# Altium footprint library OltestLib.PcbLib: 98 footprints (part 3 of 7)
Each footprint in its own frame and in the unit in brackets; x right, y up, seen from the top. Pads: shape width x height; smd on the part's side, far side on the other; paste and mask are expansions set on the pad; w line width, h text height; cw(c..) or ccw(c..) is an arc to the next point about the centre after c.
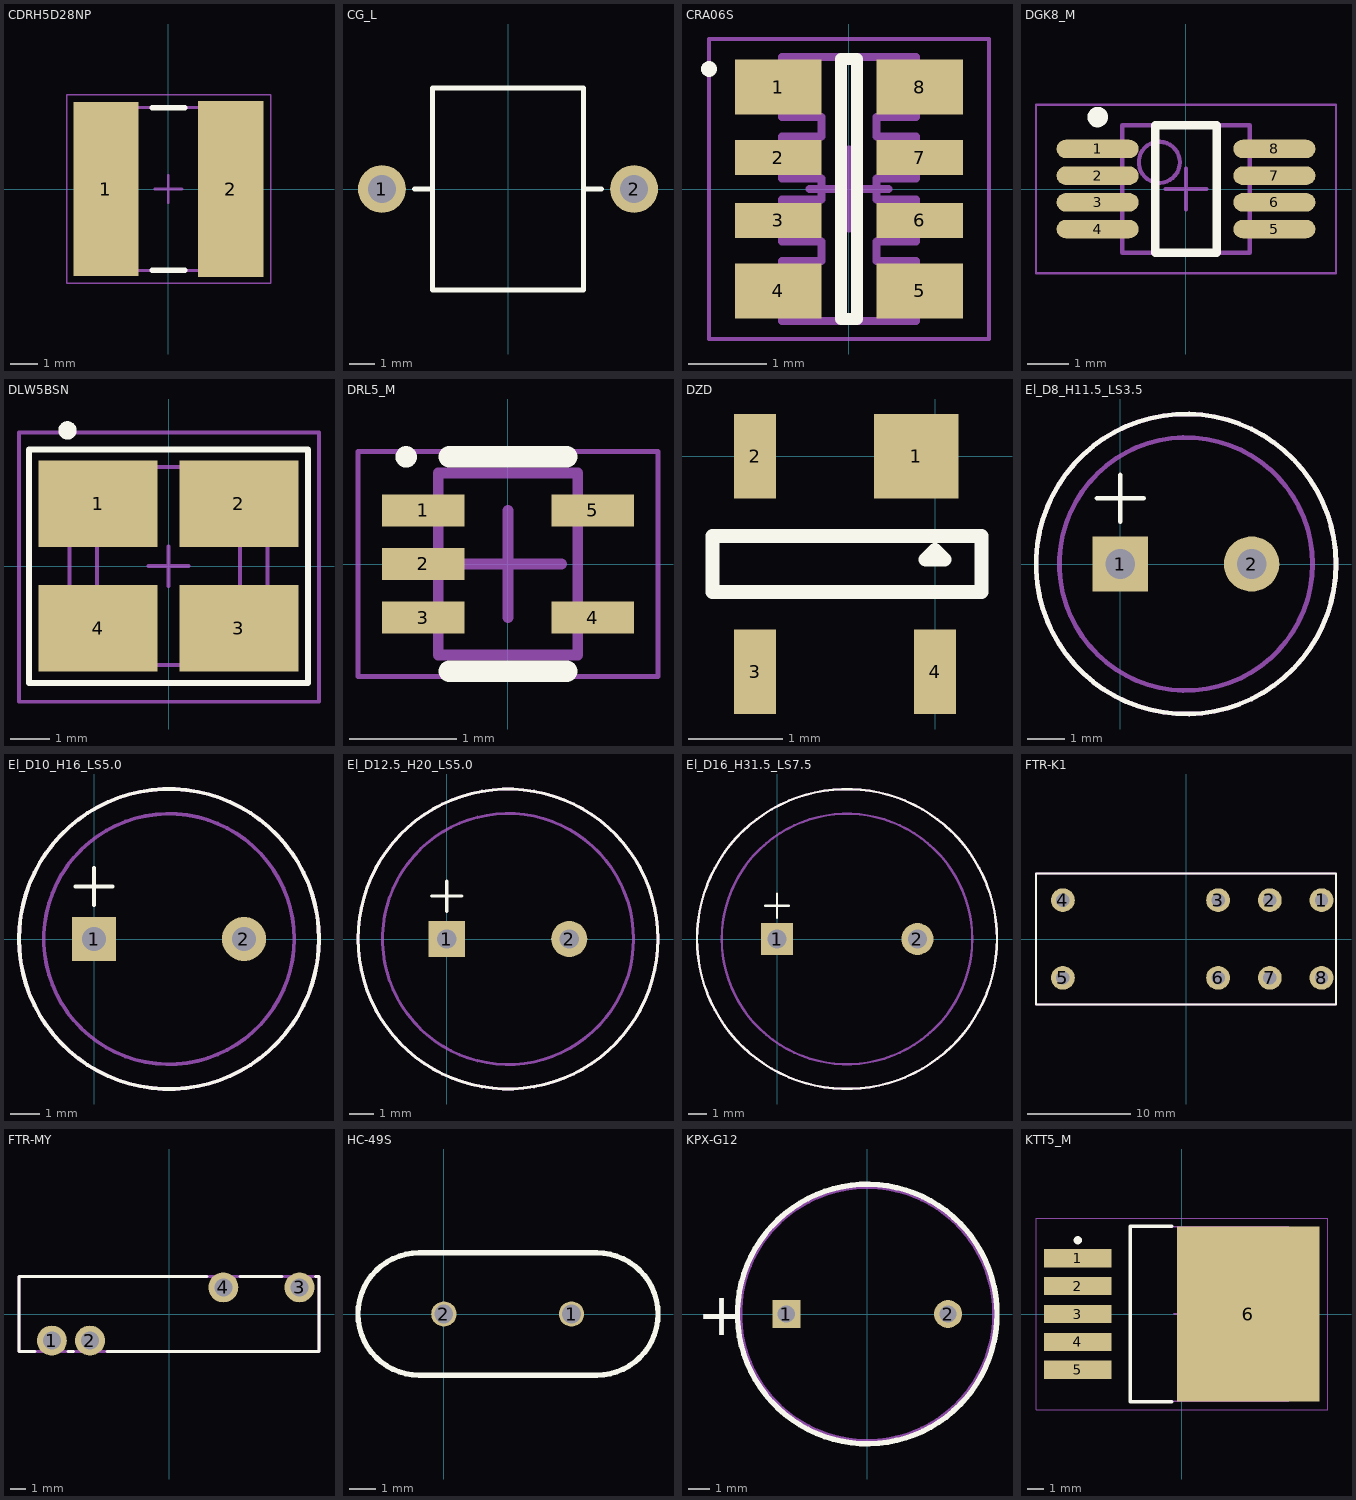
[diagram p2: the footprints below, top view; thin cyan lines are the x and y axes]

## CDRH5D28NP [mm] "Precision Wire Wound Inductor, 2-Leads, Body 5,75x5,75mm, IPC Low Density"
height 2.8
pads (2):
  rect 2.4x6.4 smd: 1(-2.3,0)
  rect 2.4x6.5 smd: 2(2.3,0)
Top Overlay:
  lines w0.2: -0.6,-3 0.6,-3 ; -0.6,3 0.6,3
Mechanical 13:
  lines w0.1: -3,-3 -3,3 3,3 3,-3 -3,-3
Mechanical 15:
  lines w0.05: -3.75,-3.475 -3.75,3.475 3.775,3.475 3.775,-3.475 -3.75,-3.475
  lines w0.1: -0.5,0 0.5,0 ; 0,-0.5 0,0.5
3D body "INDP5858X28M.step": height 2.9, standoff 0, extent -2.975,-3 2.975,3

## CG_L [mm]
height 10
pads (2):
  round 1.9 hole 1.1: 1(-5,0) 2(5,0)
Top Overlay:
  lines w0.203: -3.7,0 -3,0 ; 3,0 3.7,0 ; -3,-4 3,-4 3,4 -3,4 -3,-4
3D body "CG_L.stp": height 9.55, standoff -2.51, extent -5.4,-4.05 5.4,4.05

## CRA06S [mm] "Chip Array, ConvexS, 8-Leads, Pitch 0,80mm,  Body 3,20x1,50mm,  IPC Low Density"
height 0.6
pads (8):
  rect 1.1x0.7 smd: 1(-0.9,1.295) 4(-0.9,-1.295) 5(0.9,-1.295) 8(0.9,1.295)
  rect 1.1x0.45 smd: 2(-0.9,0.4) 3(-0.9,-0.4) 6(0.9,-0.4) 7(0.9,0.4)
Top Overlay:
  circle w0.1: c-1.778,1.524 r0.05
  lines w0.152: -0.102,-1.651 0.102,-1.651 0.102,1.651 -0.102,1.651 -0.102,-1.651
Mechanical 13:
  lines w0.1: -0.85,-1.675 0.85,-1.675 0.85,-0.915 0.35,-0.915 0.35,-0.665 0.85,-0.665 0.85,-0.135 0.35,-0.135 0.35,0.135 0.85,0.135 0.85,0.665 0.35,0.665 0.35,0.915 0.85,0.915 0.85,1.675 -0.85,1.675 -0.85,0.915 -0.35,0.915 -0.35,0.665 -0.85,0.665 -0.85,0.135 -0.35,0.135 -0.35,-0.135 -0.85,-0.135 -0.85,-0.665 -0.35,-0.665 -0.35,-0.915 -0.85,-0.915 -0.85,-1.675
Mechanical 15:
  lines w0.05: -1.778,-1.905 1.778,-1.905 1.778,1.905 -1.778,1.905 -1.778,-1.905
  lines w0.1: -0.5,0 0.5,0 ; 0,-0.5 0,0.5
3D body "CAC-80P319X150-8M.step": height 0.6, standoff 0, extent -0.875,-1.675 0.875,1.675

## DGK8_M [mm] "TSOP, 8-Leads, Body 3x3mm, Pitch 0.65mm, IPC Low Density"
height 1.1
pads (8):
  oval 2x0.45 smd: 1(-2.15,0.975) 2(-2.15,0.325) 3(-2.15,-0.325) 4(-2.15,-0.975) 5(2.15,-0.975) 6(2.15,-0.325) 7(2.15,0.325) 8(2.15,0.975)
Top Overlay:
  circle w0.25: c-2.15,1.75 r0.125
  lines w0.2: -0.75,-1.55 -0.75,1.55 0.75,1.55 0.75,-1.55 -0.75,-1.55
Mechanical 13:
  circle w0.1: c-0.65,0.65 r0.5
  lines w0.1: -1.55,-1.55 -1.55,1.55 1.55,1.55 1.55,-1.55 -1.55,-1.55
Mechanical 15:
  lines w0.05: -3.65,-2.05 -3.65,2.05 3.65,2.05 3.65,-2.05 -3.65,-2.05
  lines w0.1: -0.5,0 0.5,0 ; 0,-0.5 0,0.5
3D body: height 1.1, standoff 0.05, extent -1.55,-1.55 1.55,1.55

## DLW5BSN [mil] "SMD Inductor"
height 177.17
pads (4):
  rect 118x86 smd: 1(-70,62) 2(70,62) 3(70,-62) 4(-70,-62)
Top Overlay:
  circle w10: c-100.39,134.84 r4.18
  lines w6: -138.78,-116.14 138.78,-116.14 138.78,116.14 -138.78,116.14 -138.78,-116.14
Mechanical 13:
  lines w3.94: -98.43,-98.43 -98.43,98.43 98.43,98.43 98.43,-98.43 -98.43,-98.43 ; -70.87,-98.43 -70.87,98.43 70.87,98.43 70.87,-98.43 -70.87,-98.43
Mechanical 15:
  lines w3.94: -19.69,0 19.68,0 ; 0,-19.69 0,19.68 ; -148.62,-134.84 -148.62,132.87 149.61,132.87 149.61,-134.84 -148.62,-134.84
3D body: height 159.45, standoff 17.72, extent -100.39,-100.39 100.39,100.39
3D body: height 17.72, standoff 0, extent -70.85,-98.41 70.85,98.41

## DRL5_M [mm] "SOTFL, 5-Flat Leads, Body 1.2x1.6x0.6mm, Pitch 0.5mm, IPC Low Density"
height 0.6
pads (5):
  rect 0.77x0.3 smd: 1(-0.79,0.5) 2(-0.79,0) 3(-0.79,-0.5) 4(0.79,-0.5) 5(0.79,0.5)
Top Overlay:
  circle w0.1: c-0.95,1 r0.05
  lines w0.2: -0.55,-1 0.55,-1 ; -0.55,1 0.55,1
Mechanical 13:
  lines w0.1: -0.65,-0.85 0.65,-0.85 0.65,0.85 -0.65,0.85 -0.65,-0.85
Mechanical 15:
  lines w0.05: -1.4,-1.05 1.4,-1.05 1.4,1.05 -1.4,1.05 -1.4,-1.05
  lines w0.1: -0.5,0 0.5,0 ; 0,-0.5 0,0.5
3D body: height 0.6, standoff 0, extent -0.65,-0.85 0.65,0.85

## DZD [mm]
pads (4):
  rect 0.899x0.899 smd mask+0.102: 1(-0.2,0)
  rect 0.45x0.899 smd mask+0.102: 2(-1.92,0) 3(-1.92,-2.3) 4(0,-2.3)
Top Overlay:
  lines w0.15: -2.376,-1.45 -2.376,-0.85 0.496,-0.85 0.496,-1.45 -2.376,-1.45 ; -0.1,-1.1 0.1,-1.1 0,-1 -0.1,-1.1
3D body: height 1.2, standoff 0.1, extent -2.376,-1.832 0.496,-0.483

## El_D8_H11.5_LS3.5 [mm]
pads (2):
  rect 1.5x1.5 hole 0.8: 1(0,0)
  round 1.5 hole 0.8: 2(3.556,0)
Top Overlay:
  circle w0.127: c1.778,0 r4.064
  lines w0.127: -0.635,1.778 0.635,1.778 ; 0,1.143 0,2.413
Mechanical 13:
  circle w0.127: c1.778,0 r4.064
  circle w0.127: c1.778,0 r3.429
  circle w0.127: c1.778,0 r4.064
3D body: height 1.02, standoff 0, extent -2.285,-4.063 5.841,4.063
3D body: height 11.56, standoff 2.03, extent -2.285,-4.063 5.841,4.063
3D body: height 2.03, standoff 1.02, extent -1.65,-3.428 5.206,3.428

## El_D10_H16_LS5.0 [mm]
pads (2):
  rect 1.5x1.5 hole 0.8: 1(0,0)
  round 1.5 hole 0.8: 2(5.08,0)
Top Overlay:
  circle w0.127: c2.54,0 r5.08
  lines w0.127: -0.635,1.778 0.635,1.778 ; 0,1.143 0,2.413
Mechanical 13:
  circle w0.127: c2.54,0 r5.08
  circle w0.127: c2.54,0 r4.242
  circle w0.127: c2.54,0 r5.08
3D body: height 4.06, standoff 2.03, extent -1.701,-4.241 6.781,4.241
3D body: height 2.03, standoff 0, extent -2.539,-5.079 7.619,5.079
3D body: height 11.94, standoff 4.06, extent -2.539,-5.079 7.619,5.079

## El_D12.5_H20_LS5.0 [mm]
pads (2):
  rect 1.5x1.5 hole 0.8: 1(0,0)
  round 1.5 hole 0.8: 2(5.08,0)
Top Overlay:
  circle w0.127: c2.54,0 r6.223
  lines w0.127: -0.635,1.778 0.635,1.778 ; 0,1.143 0,2.413
Mechanical 13:
  circle w0.127: c2.54,0 r6.223
  circle w0.127: c2.54,0 r5.207
  circle w0.127: c2.54,0 r6.223
3D body: height 4.06, standoff 2.03, extent -2.666,-5.206 7.746,5.206
3D body: height 16, standoff 4.06, extent -3.682,-6.222 8.762,6.222
3D body: height 2.03, standoff 0, extent -3.682,-6.222 8.762,6.222

## El_D16_H31.5_LS7.5 [mm]
pads (2):
  rect 1.7x1.7 hole 1: 1(0,0)
  round 1.7 hole 1: 2(7.493,0)
Top Overlay:
  circle w0.127: c3.734,0 r8.001
  lines w0.127: -0.635,1.778 0.635,1.778 ; 0,1.143 0,2.413
Mechanical 13:
  circle w0.127: c3.734,0 r8.001
  circle w0.127: c3.734,0 r6.68
  circle w0.127: c3.734,0 r8.001
3D body: height 2.03, standoff 1.02, extent -2.946,-6.68 10.413,6.68
3D body: height 1.02, standoff 0, extent -4.267,-8 11.734,8
3D body: height 31.5, standoff 2.03, extent -4.267,-8 11.734,8

## FTR-K1 [mm] "FTR-K1"
height 15.697
pads (8):
  round 2.3 hole 1.3: 1(13.1,3.75) 2(8.1,3.75) 3(3.1,3.75) 4(-11.9,3.75) 5(-11.9,-3.75) 6(3.1,-3.75) 7(8.1,-3.75) 8(13.1,-3.75)
Top Overlay:
  lines w0.203: -14.5,-6.35 -14.5,6.35 14.5,6.35 14.5,-6.35 -14.5,-6.35
Mechanical 13:
  lines w0.203: -14.5,-6.35 14.5,-6.35 14.5,6.35 -14.5,6.35 -14.5,-6.35
3D body: height 15.7, standoff 0, extent -14.499,-6.349 14.499,6.349

## FTR-MY [mm] "FTR-MY"
height 11.989
pads (4):
  round 2 hole 1.2: 1(-7.81,-1.775) 2(-5.27,-1.775) 3(8.7,1.775) 4(3.62,1.775)
Top Overlay:
  lines w0.203: -8.95,-2.5 -10,-2.5 -10,2.5 2.525,2.5 ; -6.725,-2.5 -6.375,-2.5 ; -4.125,-2.5 10,-2.5 10,2.5 9.775,2.5 ; 4.75,2.5 7.525,2.5
Mechanical 13:
  lines w0.203: -10,-2.5 10,-2.5 10,2.5 -10,2.5 -10,-2.5
3D body: height 11.99, standoff 0, extent -9.999,-2.499 9.999,2.499

## HC-49S [mil]
pads (2):
  round 38 / inner round 0 / far side round 57 hole 28 mask+3: 1(192,0) 2(0,0)
Top Overlay:
  lines w8: -37,-92 cw(c-37,0) -37,92 230,92 cw(c230,0) 230,-92 -37,-92
3D body: height 0, standoff 0, extent -41.01,-88.55 -41,-88.55
3D body "HC49S.stp": height 150.61, standoff -117.11, extent -127.42,-92.07 319.43,91

## KPX-G12 [mil]
height 295.28
pads (2):
  rect 52x52 hole 32: 1(-149.61,0)
  round 52 hole 32: 2(149.61,0)
Top Overlay:
  circle w10: c0,0 r240.16
  text "+" at -314.96,-39.37 h78.74
Mechanical 13:
  circle w10: c0,0 r236.22
3D body: height 295.28, standoff 0, extent -236.2,-236.2 236.2,236.2

## KTT5_M [mm] "D2-PAK, 6-Leads, Body 8.9x10.2mm, Pitch 1.7mm, Lead Span 15.2mm, IPC Low Density"
height 4.83
pads (6):
  rect 4.1x1.1 smd: 1(-6.35,3.4) 2(-6.35,1.7) 3(-6.35,0) 4(-6.35,-1.7) 5(-6.35,-3.4)
  rect 8.7x10.7 smd: 6(4.05,0)
Top Overlay:
  circle w0.25: c-6.35,4.5 r0.125
  lines w0.2: -0.6,-5.35 -3.15,-5.35 -3.15,5.35 -0.6,5.35
Mechanical 13:
  lines w0.1: -3.15,-5.325 6.5,-5.325 6.5,5.325 -3.15,5.325 -3.15,-5.325
Mechanical 15:
  lines w0.05: -8.9,-5.85 8.9,-5.85 8.9,5.85 -8.9,5.85 -8.9,-5.85
  lines w0.1: -0.5,0 0.5,0 ; 0,-0.5 0,0.5
3D body: height 4.83, standoff 0, extent -3.15,-5.325 6.5,5.325